# EAGLE library part LTC2941 (library NicksParts)
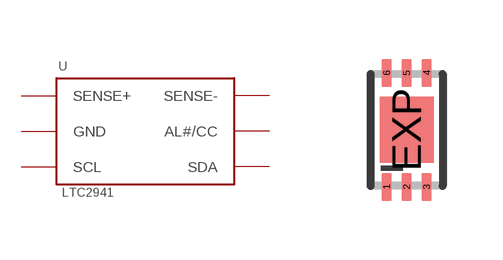
[diagram p6: symbol with the pads of DFN6-2X3; footprint DFN6-2X3]

Designator prefix -

## LTC2941  [DFN6-2X3]
1  SENSE+
2  GND
3  SCL
4  SDA
5  AL#/CC
6  SENSE-

## Footprint DFN6-2X3 (pad centres in mm)
DCB Package 6-Lead Plastic DFN (2mm × 3mm) Source: http://www.linear.com/pc/downloadDocument.do?navId=H0,C1,C1003,C1042,C1032,C1063,P26952,D16357
smd 0.25 x 0.7: 1 -0.5,-1.425; 2 0,-1.425; 3 0.5,-1.425; 4 0.5,1.425; 5 0,1.425; 6 -0.5,1.425
smd 1.35 x 1.65: EXP 0,0